# Altium footprint library CLE-105-01-X-DV--Symbol-Altium-44987.PcbLib: 1 footprints
Each footprint in its own frame and in the unit in brackets; x right, y up, seen from the top. Pads: shape width x height; smd on the part's side, far side on the other; paste and mask are expansions set on the pad; w line width, h text height; cw(c..) or ccw(c..) is an arc to the next point about the centre after c.
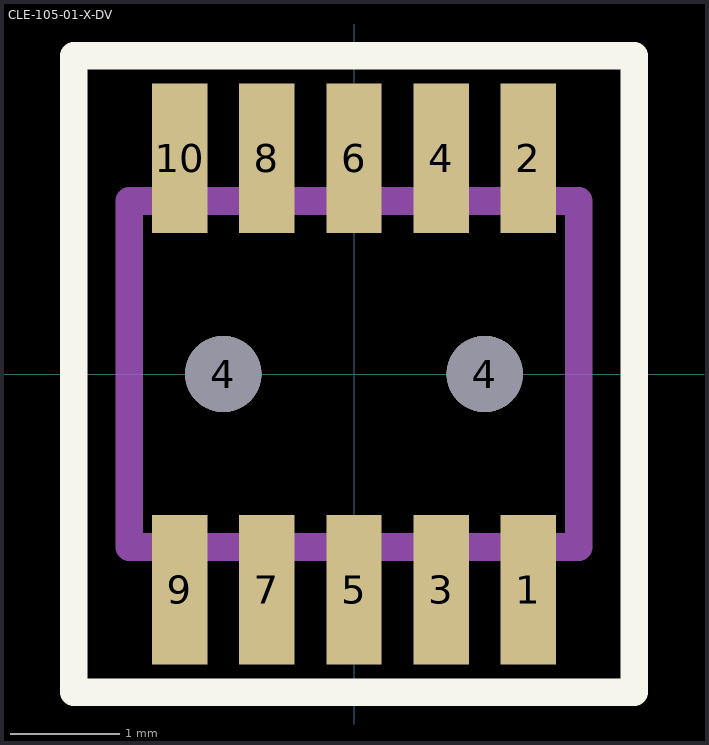
[diagram p0: the footprint, top view; thin cyan lines are the x and y axes]

## CLE-105-01-X-DV [mil]
pads (12):
  rect 20x54 smd mask+2: 1(63,-78) 2(63,78) 3(31.5,-78) 4(31.5,78) 5(0,-78) 6(0,78) 7(-31.5,-78) 8(-31.5,78) 9(-63,-78) 10(-63,78)
  round 27.56 hole 27.56 unplated: 4(-47.24,0) 4(47.24,0)
Top Overlay:
  lines w10: -101.25,-115 101.25,-115 101.25,115 -101.25,115 -101.25,-115
Mechanical 1:
  lines w10: -81.25,-62.5 81.25,-62.5 81.25,62.5 -81.25,62.5 -81.25,-62.5
  text "J1" at -17.3,-17.72 h29.53
3D body "CLE-105-01-G-DV-A.stp": height 130.5, standoff -27.5, extent -86.24,-95.49 86.26,95.51